# Altium footprint library PCB - LEADED - SOP - TI VSSOP-8 DCU0008A.PcbLib: 1 footprints
Each footprint in its own frame and in the unit in brackets; x right, y up, seen from the top. Pads: shape width x height; smd on the part's side, far side on the other; paste and mask are expansions set on the pad; w line width, h text height; cw(c..) or ccw(c..) is an arc to the next point about the centre after c.
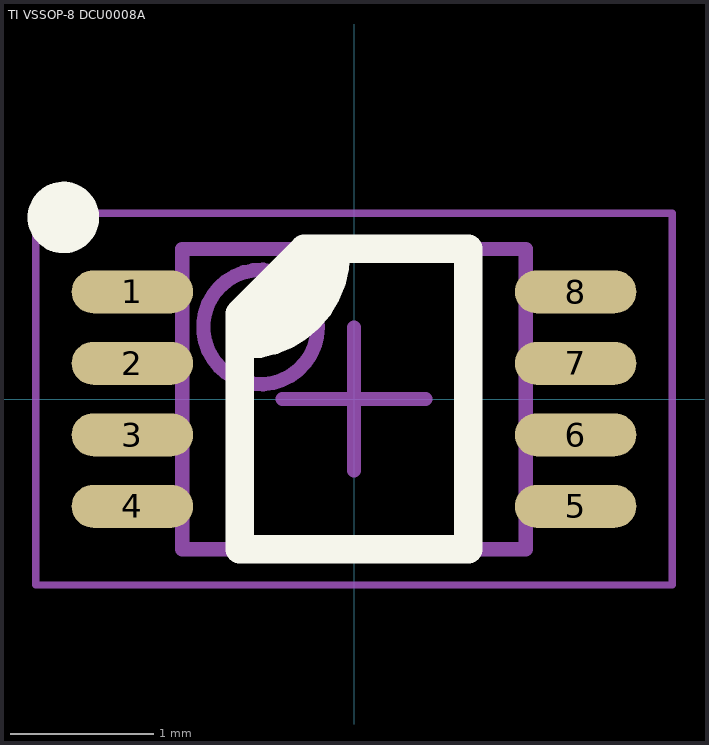
[diagram p0: the footprint, top view; thin cyan lines are the x and y axes]

## TI VSSOP-8 DCU0008A [mm] "TSSOP, 8-Leads, Body 2.00x2.30mm, Pitch 0.50mm, IPC Medium Density"
height 0.9
pads (8):
  oval 0.85x0.3 smd: 1(-1.55,0.75) 2(-1.55,0.25) 3(-1.55,-0.25) 4(-1.55,-0.75) 5(1.55,-0.75) 6(1.55,-0.25) 7(1.55,0.25) 8(1.55,0.75)
Top Overlay:
  circle w0.25: c-2.032,1.27 r0.125
  region: -0.347,1.05 -0.313,1.016 -0.127,1.016 -0.127,0.762 -0.508,0.381 -0.762,0.381 -0.762,0.559 -0.8,0.597
  lines w0.2: -0.762,0.381 ccw(c-0.762,1.016) -0.127,1.016 ; -0.8,-1.05 0.8,-1.05 0.8,1.05 -0.347,1.05 -0.8,0.597 -0.8,-1.05
Mechanical 13:
  circle w0.1: c-0.654,0.504 r0.4
  lines w0.1: -1.2,-1.05 -1.2,1.05 1.2,1.05 1.2,-1.05 -1.2,-1.05
Mechanical 15:
  lines w0.05: -2.225,-1.3 -2.225,1.3 2.225,1.3 2.225,-1.3 -2.225,-1.3
Mechanical 2 (Mech9):
  lines w0.1: -0.5,0 0.5,0 ; 0,-0.5 0,0.5
3D body "TI VSSOP-8 DCU0008A.step": height 0.9, standoff 0, extent -1.549,-1.05 1.549,1.05